# EAGLE library part IXDN609 (library gateDriver)
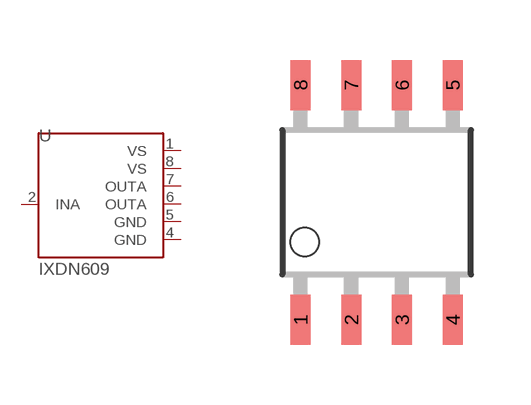
[diagram p0: symbol with the pads of SO08; footprint SO08]

Designator prefix -

## IXDN609  [SO08]
1  VS  pwr
2  INA  in
4  GND  pwr
5  GND  pwr
6  OUTA  out
7  OUTA  out
8  VS  pwr

## Footprint SO08 (pad centres in mm)
Small Outline Package
smd 0.5 x 1.25: 1 -1.905,-2.934; 2 -0.635,-2.934; 3 0.635,-2.934; 4 1.905,-2.934; 5 1.905,2.934; 6 0.635,2.934; 7 -0.635,2.934; 8 -1.905,2.934